# Altium footprint library PSULib.PcbLib: 25 footprints (part 2 of 2)
Each footprint in its own frame and in the unit in brackets; x right, y up, seen from the top. Pads: shape width x height; smd on the part's side, far side on the other; paste and mask are expansions set on the pad; w line width, h text height; cw(c..) or ccw(c..) is an arc to the next point about the centre after c.
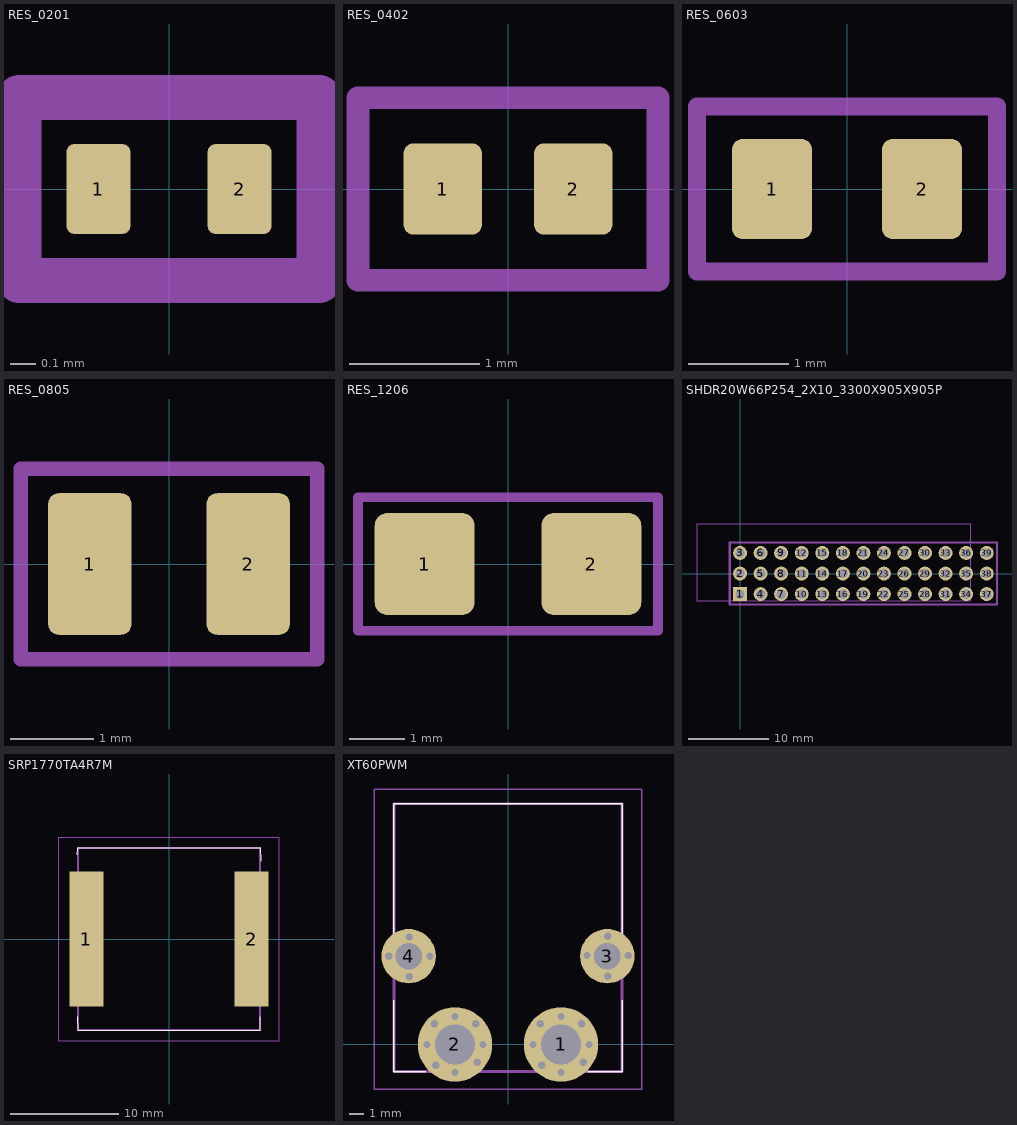
[diagram p1: the footprints below, top view; thin cyan lines are the x and y axes]

## PGA56x10 [mm]

## RES_0201 [mm]
pads (2):
  rrect25% 0.25x0.35 smd mask+0.05: 1(-0.275,0) 2(0.275,0)
Mechanical 13:
  lines w0.175: -0.584,-0.356 -0.584,0.356 0.584,0.356 0.584,-0.356 -0.584,-0.356
  text "'.Designator'" at -5.665,-0.417 h1
3D body "R0201.step": height 0.15, standoff 0, extent -0.3,-0.15 0.3,0.15

## RES_0402 [mm]
pads (2):
  rrect25% 0.6x0.7 smd: 1(-0.5,0) 2(0.5,0)
Mechanical 13:
  lines w0.175: -1.15,-0.7 1.15,-0.7 1.15,0.7 -1.15,0.7 -1.15,-0.7
  text "'.Designator'" at -5.665,-0.417 h1
3D body "R0402.step": height 0.3, standoff 0, extent -0.5,-0.25 0.5,0.25

## RES_0603 [mm]
pads (2):
  rrect25% 0.8x1 smd: 1(-0.75,0) 2(0.75,0)
Mechanical 13:
  lines w0.175: -1.5,-0.825 1.5,-0.825 1.5,0.825 -1.5,0.825 -1.5,-0.825
  text "'.Designator'" at -5.665,-0.417 h1
3D body "R0603.step": height 0.52, standoff 0.01, extent -0.8,-0.43 0.8,0.43

## RES_0805 [mm]
pads (2):
  rrect25% 1x1.7 smd: 1(-0.95,0) 2(0.95,0)
Mechanical 13:
  lines w0.175: -1.778,-1.143 -1.778,1.143 1.778,1.143 1.778,-1.143 -1.778,-1.143
  text "'.Designator'" at -5.665,-0.417 h1
3D body "R0805.step": height 0.47, standoff 0.01, extent -1,-0.63 1,0.63

## RES_1206 [mm]
pads (2):
  rrect25% 1.8x1.84 smd: 1(-1.5,0) 2(1.5,0)
Mechanical 13:
  lines w0.175: -2.7,-1.2 -2.7,1.2 2.7,1.2 2.7,-1.2 -2.7,-1.2
  text "'.Designator'" at -5.665,-0.417 h1
3D body "R1206.step": height 0.57, standoff 0.01, extent -1.6,-0.83 1.6,0.83

## SHDR20W66P254_2X10_3300X905X905P [mm]
pads (39):
  rect 1.725x1.725 / inner round 1.725 / far side rect 1.725x1.725 hole 1.15: 1(0,-2.54)
  round 1.725 hole 1.15: 2(0,0) 3(0,2.54) 4(2.54,-2.54) 5(2.54,0) 6(2.54,2.54) 7(5.08,-2.54) 8(5.08,0) 9(5.08,2.54) 10(7.62,-2.54) 11(7.62,0) 12(7.62,2.54) 13(10.16,-2.54) 14(10.16,0) 15(10.16,2.54) 16(12.7,-2.54) 17(12.7,0) 18(12.7,2.54) 19(15.24,-2.54) 20(15.24,0) 21(15.24,2.54) 22(17.78,-2.54) 23(17.78,0) 24(17.78,2.54) 25(20.32,-2.54) 26(20.32,0) 27(20.32,2.54) 28(22.86,-2.54) 29(22.86,0) 30(22.86,2.54) 31(25.4,-2.54) 32(25.4,0) 33(25.4,2.54) 34(27.94,-2.54) 35(27.94,0) 36(27.94,2.54) 37(30.48,-2.54) 38(30.48,0) 39(30.48,2.54)
Top Assembly:
  lines w0.254: -1.27,-3.81 -1.27,3.81 31.75,3.81 31.75,1.587 31.75,-2.857 31.75,-3.81 -1.27,-3.81
Mechanical 20:
  lines w0.05: -5.32,-3.38 28.48,-3.38 28.48,6.17 -5.32,6.17 -5.32,-3.38

## SRP1770TA4R7M [mm]
pads (2):
  rect 3.15x12.5 smd: 1(-7.675,0) 2(7.675,0)
Top Overlay:
  lines w0.1: -8.5,-7.2 -8.45,-8.45 8.45,-8.45 8.45,-7.2 ; -8.5,7.8 -8.45,8.45 8.45,8.45 8.5,7.2
Mechanical 15:
  lines w0.2: -8.45,-8.45 8.45,-8.45 8.45,8.45 -8.45,8.45 -8.45,-8.45
Mechanical 20:
  lines w0.1: -10.25,-9.45 10.25,-9.45 10.25,9.45 -10.25,9.45 -10.25,-9.45
3D body "SRP1770TA-4R7M.stp": height 6.81, standoff 0, extent -8.89,-8.577 9.01,8.323

## XT60PWM [mm]
pads (4):
  round 5.05 hole 2.7: 1(3.6,0) 2(-3.6,0)
  round 3.7 hole 1.8: 3(6.75,6) 4(-6.75,6)
via -3.6,1.9 diameter 0.8 hole 0.5
via -1.7,0 diameter 0.8 hole 0.5
via -3.6,-1.9 diameter 0.8 hole 0.5
via -5.5,0 diameter 0.8 hole 0.5
via -5,1.4 diameter 0.8 hole 0.5
via -4.9,-1.4 diameter 0.8 hole 0.5
via -2.1,-1.2 diameter 0.8 hole 0.5
via -2.2,1.4 diameter 0.8 hole 0.5
via 3.6,1.9 diameter 0.8 hole 0.5
via 5.5,0 diameter 0.8 hole 0.5
via 3.6,-1.9 diameter 0.8 hole 0.5
via 1.7,0 diameter 0.8 hole 0.5
via 2.2,1.4 diameter 0.8 hole 0.5
via 2.3,-1.4 diameter 0.8 hole 0.5
via 5.1,-1.2 diameter 0.8 hole 0.5
via 5,1.4 diameter 0.8 hole 0.5
via -6.7,4.6 diameter 0.8 hole 0.5
via -5.3,6 diameter 0.8 hole 0.5
via -6.7,7.3 diameter 0.8 hole 0.5
via -8.1,6 diameter 0.8 hole 0.5
via 6.765,4.639 diameter 0.8 hole 0.5
via 8.165,6.039 diameter 0.8 hole 0.5
via 6.765,7.339 diameter 0.8 hole 0.5
via 5.365,6.039 diameter 0.8 hole 0.5
Top Overlay:
  lines w0.1: -7.75,3 -7.75,-1.85 -5.6,-1.85 ; -7.75,7 -7.75,16.35 7.75,16.35 7.75,7 ; 5.4,-1.85 7.75,-1.85 7.75,3
Mechanical 15:
  lines w0.2: -7.75,-1.85 7.75,-1.85 7.75,16.35 -7.75,16.35 -7.75,-1.85
Mechanical 20:
  lines w0.1: -9.1,-3.025 9.1,-3.025 9.1,17.35 -9.1,17.35 -9.1,-3.025